# EAGLE library part LCD-16X4 (library GW-devices)
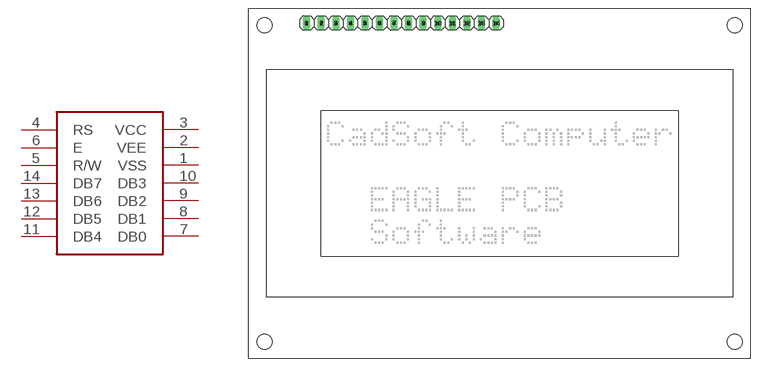
[diagram p4: symbol with the pads of LCD-16X4; footprint LCD-16X4]

Designator prefix -

## LCD-16X4  [LCD-16X4]
1  VSS
2  VEE
3  VCC
4  RS
5  R/W
6  E
7  DB0
8  DB1
9  DB2
10  DB3
11  DB4
12  DB5
13  DB6
14  DB7

## Footprint LCD-16X4 (pad centres in mm)
LCD DISPLAY 98 x 40 pixels
drill 0.813 long: 1 -34.29,27.94; 2 -31.75,27.94; 3 -29.21,27.94; 4 -26.67,27.94; 5 -24.13,27.94; 6 -21.59,27.94; 7 -19.05,27.94; 8 -16.51,27.94; 9 -13.97,27.94; 10 -11.43,27.94; 11 -8.89,27.94; 12 -6.35,27.94; 13 -3.81,27.94; 14 -1.27,27.94
hole 2.642 at 40.386,27.559
hole 2.642 at 40.386,-27.559
hole 2.642 at -41.656,-27.559
hole 2.642 at -41.656,27.559